# Altium footprint library ANT_915.PcbLib: 1 footprints
Each footprint in its own frame and in the unit in brackets; x right, y up, seen from the top. Pads: shape width x height; smd on the part's side, far side on the other; paste and mask are expansions set on the pad; w line width, h text height; cw(c..) or ccw(c..) is an arc to the next point about the centre after c.
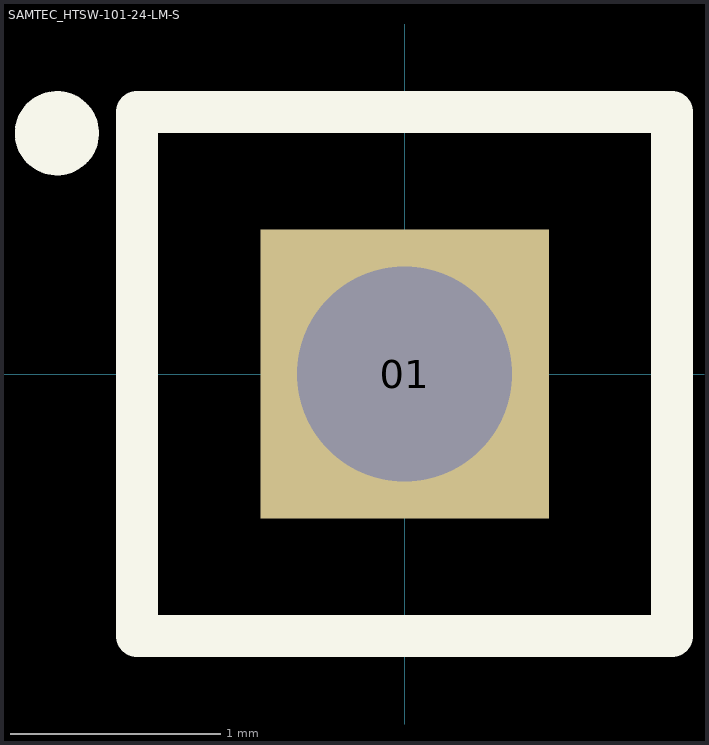
[diagram p0: the footprint, top view; thin cyan lines are the x and y axes]

## SAMTEC_HTSW-101-24-LM-S [mm]
pads (1):
  rect 1.37x1.37 / inner round 1.37 / far side rect 1.37x1.37 hole 1.02: 01(0,0)
Top Overlay:
  circle w0.2: c-1.651,1.143 r0.1
  lines w0.2: -1.27,-1.245 1.27,-1.245 1.27,1.245 -1.27,1.245 -1.27,-1.245
Mechanical 13:
  lines w0.1: -1.27,-1.245 1.27,-1.245 1.27,1.245 -1.27,1.245 -1.27,-1.245
3D body "Spiral antenna 433 Mhz.stp": height 5.57, standoff -1.73, extent -35.118,-4.031 0.381,3.269